# EAGLE library part XCV1000E_VQ100 (library xilinx-xcv)
xcv1000e_vq100 edit this description Auto generated by make-symbol-device-package-bsdl.ulp Rev. 26 Source: xcv1000e_vq100.bsd
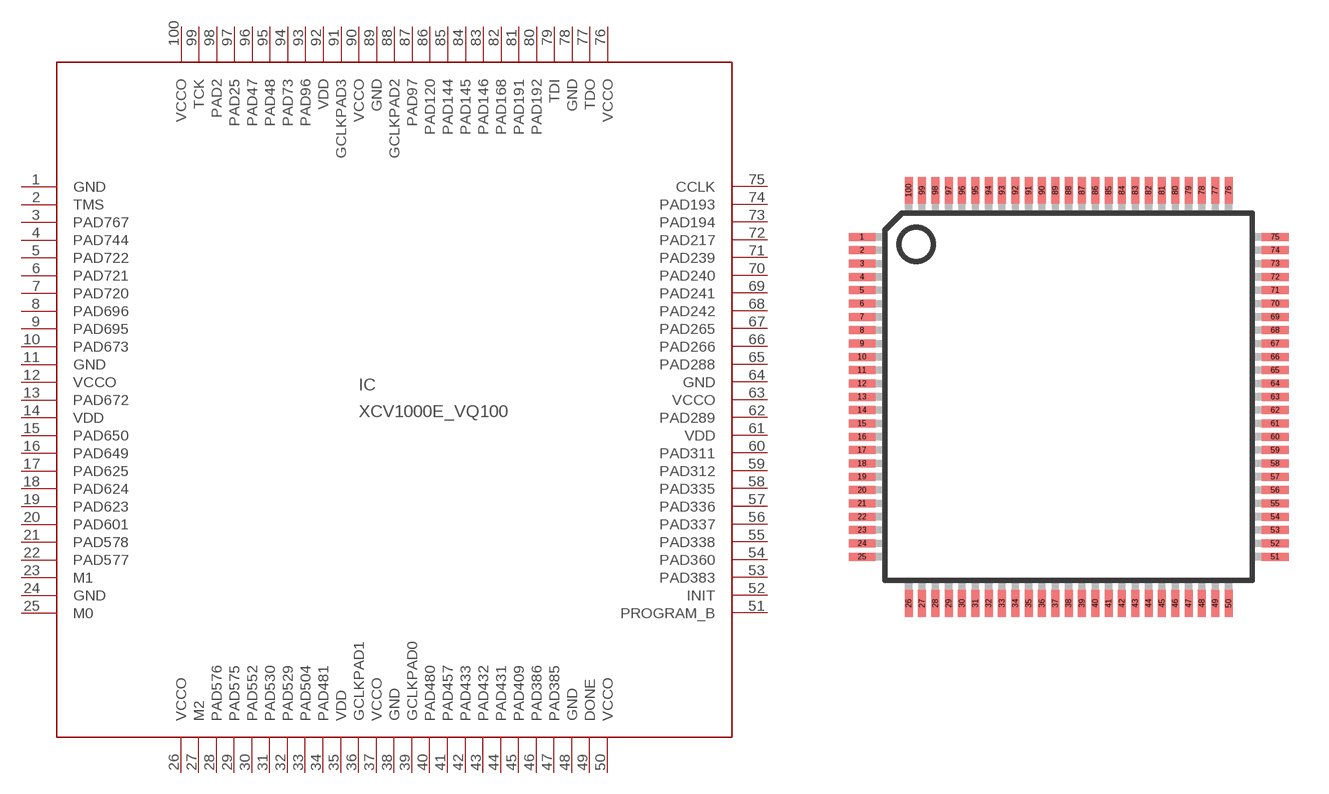
[diagram p16: symbol with the pads of VQ100; footprint VQ100]

Designator prefix IC

## XCV1000E_VQ100 (OC_FARNELL: unknown; OC_NEWARK: unknown)  [VQ100]
1  GND  pwr
2  TMS  in
3  PAD767
4  PAD744
5  PAD722
6  PAD721
7  PAD720
8  PAD696
9  PAD695
10  PAD673
11  GND  pwr
12  VCCO  pwr
13  PAD672
14  VDD  pwr
15  PAD650
16  PAD649
17  PAD625
18  PAD624
19  PAD623
20  PAD601
21  PAD578
22  PAD577
23  M1  in
24  GND  pwr
25  M0  in
26  VCCO  pwr
27  M2  in
28  PAD576
29  PAD575
30  PAD552
31  PAD530
32  PAD529
33  PAD504
34  PAD481
35  VDD  pwr
36  GCLKPAD1  in
37  VCCO  pwr
38  GND  pwr
39  GCLKPAD0  in
40  PAD480
41  PAD457
42  PAD433
43  PAD432
44  PAD431
45  PAD409
46  PAD386
47  PAD385
48  GND  pwr
49  DONE
50  VCCO  pwr
51  PROGRAM_B  in
52  INIT
53  PAD383
54  PAD360
55  PAD338
56  PAD337
57  PAD336
58  PAD335
59  PAD312
60  PAD311
61  VDD  pwr
62  PAD289
63  VCCO  pwr
64  GND  pwr
65  PAD288
66  PAD266
67  PAD265
68  PAD242
69  PAD241
70  PAD240
71  PAD239
72  PAD217
73  PAD194
74  PAD193
75  CCLK
76  VCCO  pwr
77  TDO  out
78  GND  pwr
79  TDI  in
80  PAD192
81  PAD191
82  PAD168
83  PAD146
84  PAD145
85  PAD144
86  PAD120
87  PAD97
88  GCLKPAD2  in
89  GND  pwr
90  VCCO  pwr
91  GCLKPAD3  in
92  VDD  pwr
93  PAD96
94  PAD73
95  PAD48
96  PAD47
97  PAD25
98  PAD2
99  TCK  in
100  VCCO  pwr

## Footprint VQ100 (pad centres in mm)
VQ100 Auto generated by make-symbol-device-package-bsdl.ulp Rev. 26
smd 1 x 0.3: 1 -7.75,6; 2 -7.75,5.5; 3 -7.75,5; 4 -7.75,4.5; 5 -7.75,4; 6 -7.75,3.5; 7 -7.75,3; 8 -7.75,2.5; 9 -7.75,2; 10 -7.75,1.5; 11 -7.75,1; 12 -7.75,0.5; 13 -7.75,0; 14 -7.75,-0.5; 15 -7.75,-1; 16 -7.75,-1.5; 17 -7.75,-2; 18 -7.75,-2.5; 19 -7.75,-3; 20 -7.75,-3.5; 21 -7.75,-4; 22 -7.75,-4.5; 23 -7.75,-5; 24 -7.75,-5.5; 25 -7.75,-6; 51 7.75,-6; 52 7.75,-5.5; 53 7.75,-5; 54 7.75,-4.5; 55 7.75,-4; 56 7.75,-3.5; 57 7.75,-3; 58 7.75,-2.5; 59 7.75,-2; 60 7.75,-1.5; 61 7.75,-1; 62 7.75,-0.5; 63 7.75,0; 64 7.75,0.5; 65 7.75,1; 66 7.75,1.5; 67 7.75,2; 68 7.75,2.5; 69 7.75,3; 70 7.75,3.5; 71 7.75,4; 72 7.75,4.5; 73 7.75,5; 74 7.75,5.5; 75 7.75,6
smd 0.3 x 1: 26 -6,-7.75; 27 -5.5,-7.75; 28 -5,-7.75; 29 -4.5,-7.75; 30 -4,-7.75; 31 -3.5,-7.75; 32 -3,-7.75; 33 -2.5,-7.75; 34 -2,-7.75; 35 -1.5,-7.75; 36 -1,-7.75; 37 -0.5,-7.75; 38 0,-7.75; 39 0.5,-7.75; 40 1,-7.75; 41 1.5,-7.75; 42 2,-7.75; 43 2.5,-7.75; 44 3,-7.75; 45 3.5,-7.75; 46 4,-7.75; 47 4.5,-7.75; 48 5,-7.75; 49 5.5,-7.75; 50 6,-7.75; 76 6,7.75; 77 5.5,7.75; 78 5,7.75; 79 4.5,7.75; 80 4,7.75; 81 3.5,7.75; 82 3,7.75; 83 2.5,7.75; 84 2,7.75; 85 1.5,7.75; 86 1,7.75; 87 0.5,7.75; 88 0,7.75; 89 -0.5,7.75; 90 -1,7.75; 91 -1.5,7.75; 92 -2,7.75; 93 -2.5,7.75; 94 -3,7.75; 95 -3.5,7.75; 96 -4,7.75; 97 -4.5,7.75; 98 -5,7.75; 99 -5.5,7.75; 100 -6,7.75